# Altium footprint library LED.PcbLib: 5 footprints
Each footprint in its own frame and in the unit in brackets; x right, y up, seen from the top. Pads: shape width x height; smd on the part's side, far side on the other; paste and mask are expansions set on the pad; w line width, h text height; cw(c..) or ccw(c..) is an arc to the next point about the centre after c.
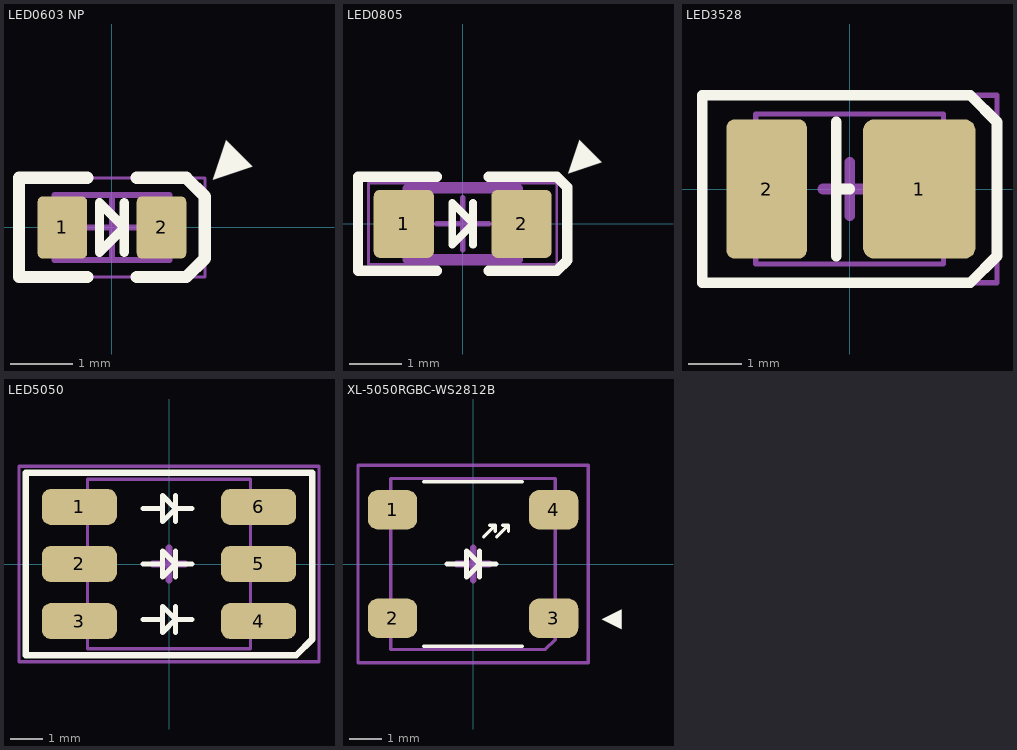
[diagram p0: the footprints below, top view; thin cyan lines are the x and y axes]

## LED0603 NP [mm]
height 0.89
pads (2):
  rrect20% 0.8x1 smd mask+0.05: 1(-0.8,0) 2(0.8,0)
Top Overlay:
  lines w0.15: 0.2,-0.4 0.2,0.4 ; -0.2,-0.4 -0.2,0.4 0.2,0 -0.2,-0.4
  lines w0.2: -0.4,-0.8 -1.5,-0.8 -1.5,0.8 -0.4,0.8 ; 0.4,-0.8 1.2,-0.8 1.5,-0.5 1.5,0.5 1.2,0.8 0.4,0.8
  text "▲" at 2.342,1.042 h1
Top Assembly:
  lines w0.1: -0.925,-0.525 0.925,-0.525 0.925,0.525 -0.925,0.525 -0.925,-0.525
Top Courtyard:
  lines w0.05: -1.5,-0.8 -1.5,0.8 1.5,0.8 1.5,-0.8 -1.5,-0.8
Top Component Center:
  lines w0.1: -0.5,0 0.5,0 ; 0,-0.5 0,0.5
3D body: height 0.1, standoff 0, extent -0.9,-0.5 0.9,0.5
3D body: height 0.5, standoff 0, extent -0.595,-0.475 0.6,0.475
3D body "Diode_Lumex_SML-LX0603SRW-TR_eec.STEP": height 0.25, standoff 0, extent -1.25,-0.625 1.25,0.625

## LED0805 [mm]
pads (2):
  rrect20% 1.15x1.3 smd paste+0 mask+0.05: 1(-1.125,0) 2(1.125,0)
Top Overlay:
  lines w0.15: 0.2,-0.4 0.2,0.4 ; -0.2,-0.4 -0.2,0.4 0.2,0 -0.2,-0.4
  lines w0.2: -0.5,-0.9 -2,-0.9 -2,0.9 -0.5,0.9 ; 0.5,-0.9 1.8,-0.9 2,-0.7 2,0.7 1.8,0.9 0.5,0.9
  text "▲" at 2.731,1.231 h1
Top Assembly:
  lines w0.2: -1.05,-0.675 1.05,-0.675 1.05,0.675 -1.05,0.675 -1.05,-0.675
Top Courtyard:
  lines w0.05: -1.8,-0.775 -1.8,0.775 1.8,0.775 1.8,-0.775 -1.8,-0.775
Top Component Center:
  lines w0.1: -0.5,0 0.5,0 ; 0,-0.5 0,0.5
3D body "Diode_Stanley_Electric_BR1112H-TR_eec.STEP": height 0.25, standoff 0, extent -1.8,-0.775 1.8,0.775

## LED3528 [mm]
pads (2):
  rrect20% 2.1x2.6 smd mask+0.05: 1(1.3,0)
  rrect20% 1.5x2.6 smd mask+0.05: 2(-1.55,0)
Top Overlay:
  lines w0.2: -0.25,-1.25 -0.25,1.25 ; -0.25,0 0,0 ; -2.75,-1.75 2.25,-1.75 2.75,-1.25 2.75,1.25 2.25,1.75 -2.75,1.75 -2.75,-1.75
Top Assembly:
  lines w0.1: -1.75,-1.4 1.75,-1.4 1.75,1.4 -1.75,1.4 -1.75,-1.4
Top Courtyard:
  lines w0.1: -2.75,-1.75 2.75,-1.75 2.75,1.75 -2.75,1.75 -2.75,-1.75
Top Component Center:
  lines w0.2: -0.5,0 0.5,0 ; 0,-0.5 0,0.5
3D body "J 2835.step": height 0.65, standoff 0, extent -1.75,-1.4 1.75,1.4

## LED5050 [mm]
pads (6):
  rrect50% 2.3x1.1 smd mask+0.05: 1(-2.75,1.75) 2(-2.75,0) 3(-2.75,-1.75) 4(2.75,-1.75) 5(2.75,0) 6(2.75,1.75)
Top Overlay:
  lines w0.15: -0.8,-1.7 -0.2,-1.7 ; -0.8,0 -0.2,0 ; -0.8,1.7 -0.2,1.7 ; 0.2,-2.1 0.2,-1.3 ; 0.2,-0.4 0.2,0.4 ; 0.2,1.3 0.2,2.1 ; 0.7,-1.7 0.2,-1.7 ; 0.7,0 0.2,0 ; 0.7,1.7 0.2,1.7 ; 0.2,-1.7 -0.2,-1.3 -0.2,-2.1 0.2,-1.7 ; 0.2,0 -0.2,0.4 -0.2,-0.4 0.2,0 ; 0.2,1.7 -0.2,2.1 -0.2,1.3 0.2,1.7
  lines w0.2: -4.4,-2.8 3.9,-2.8 4.4,-2.3 4.4,2.8 -4.4,2.8 -4.4,-2.8
Top Assembly:
  lines w0.1: -2.5,-2.6 -2.5,2.6 2.5,2.6 2.5,-2.6 -2.5,-2.6
Top Courtyard:
  lines w0.1: -4.6,-3 -4.6,3 4.6,3 4.6,-3 -4.6,-3
Top Component Center:
  lines w0.2: -0.5,0 0.5,0 ; 0,-0.5 0,0.5
3D body "J 5050 Round.step": height 0.74, standoff 0, extent -2.5,-2.59 2.5,2.59

## XL-5050RGBC-WS2812B [mm]
pads (4):
  rrect50% 1.5x1.2 smd mask+0.05: 1(-2.45,1.65) 2(-2.45,-1.65) 3(2.45,-1.65) 4(2.45,1.65)
Top Overlay:
  lines w0.1: -1.5,-2.5 1.5,-2.5 ; -1.5,2.5 1.5,2.5 ; 0.323,0.823 0.677,1.177 ; 0.5,1.177 0.677,1.177 ; 0.677,1 0.677,1.177 ; 0.723,0.823 1.077,1.177 ; 0.9,1.177 1.077,1.177 ; 1.077,1 1.077,1.177
  lines w0.15: -0.8,0 -0.2,0 ; 0.2,-0.4 0.2,0.4 ; 0.7,0 0.2,0 ; 0.2,0 -0.2,0.4 -0.2,-0.4 0.2,0
  text "▲" at 4.625,-2 h1
Top Assembly:
  lines w0.1: -2.5,-2.6 -2.5,2.6 2.5,2.6 2.5,-2.3 2.2,-2.6 -2.5,-2.6
Top Courtyard:
  lines w0.1: -3.5,-3 -3.5,3 3.5,3 3.5,-3 -3.5,-3
Top Component Center:
  lines w0.2: -0.5,0 0.5,0 ; 0,-0.5 0,0.5
3D body "WS2812_RGB_LED_updated.stp": height 1.5, standoff -0.2, extent -2.675,-2.475 2.675,2.475